# EAGLE library part DS1267 (library HydraSpex)
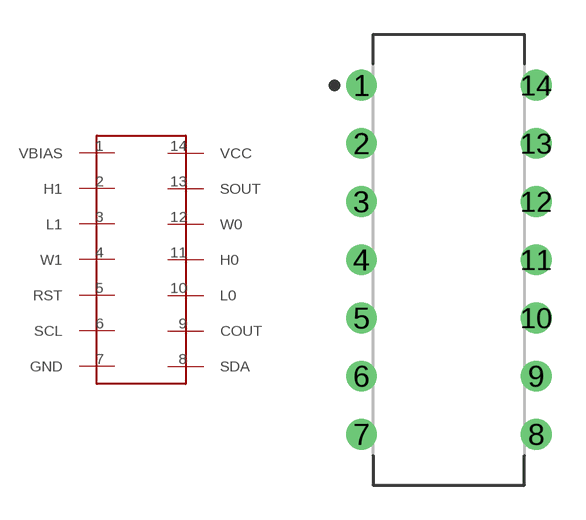
[diagram p4: symbol with the pads of DIP762W53P254L1969H508Q14B; footprint DIP762W53P254L1969H508Q14B]

Designator prefix -

## DS1267  [DIP762W53P254L1969H508Q14B]
1  VBIAS
2  H1
3  L1
4  W1
5  RST
6  SCL
7  GND
8  SDA
9  COUT
10  L0
11  H0
12  W0
13  SOUT
14  VCC

## Footprint DIP762W53P254L1969H508Q14B (pad centres in mm)
14-DIP, 2.54 mm (0.10 in) pitch, 7.62 mm (0.30 in) span, 19.69 X 6.35 X 5.08 mm body 14-pin DIP package with 2.54 mm (0.10 in) pitch, 7.62 mm (0.30 in) span with body size 19.69 X 6.35 X 5.08 mm
drill 0.743 pad 1.343: 1 -3.81,7.62; 2 -3.81,5.08; 3 -3.81,2.54; 4 -3.81,0; 5 -3.81,-2.54; 6 -3.81,-5.08; 7 -3.81,-7.62; 8 3.81,-7.62; 9 3.81,-5.08; 10 3.81,-2.54; 11 3.81,0; 12 3.81,2.54; 13 3.81,5.08; 14 3.81,7.62